# EAGLE library part ARTIC_R2 (library New_Parts_IC-Comms)
AnSem ARTIC R2 Chipset The ARTIC is an integrated low power small size ARGOS 2/3/4 single chip radio. ARTIC implements a message based wireless interface. For satellite uplink communication, ARTIC will encode, modulate and transmit provided user messages. For downlink communication, ARTIC will lock to the downstream, demodulate and decode and extract the satellite messages. The ARTIC can transmit signals in frequency bands around 400MHz and receive signals in the bands around 466MHz, in accordance with the ARGOS satellite system specifications. The ARTIC is compliant and certified for all ARGOS 2 and ARGOS 3 TX standards. It contains a RF transceiver, afrequency synthesizer and a digital baseband modem. The ARTIC contains an on-chip power amplifier delivering 1mW [0dBm] output power, that serves as an output for connecting an external high efficient PA. The (de)modulation algorithms run on an on-chip DSP. This software approach allows for retargeting the ARTIC for other applications. The DSP program can be retained on an external flash or the MCU.
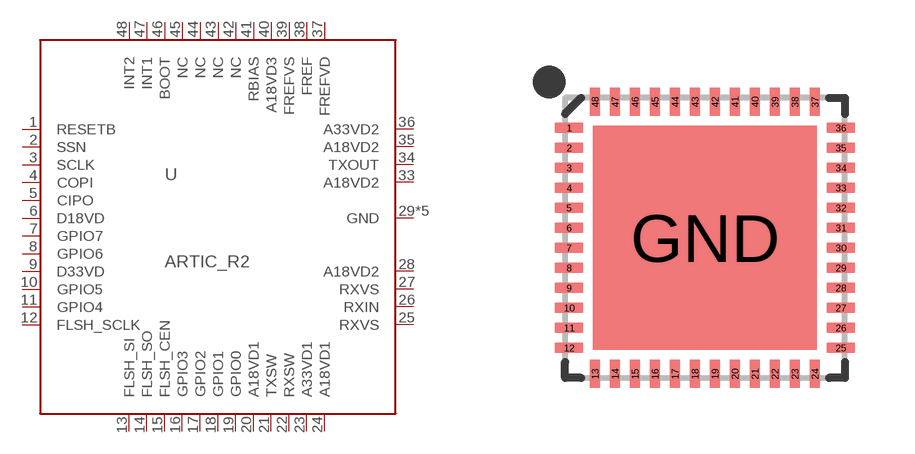
[diagram p0: symbol with the pads of QFN-48; footprint QFN-48]

Designator prefix U

## ARTIC_R2 (PROD_ID: IC-15312)  [QFN-48]
1  RESETB
2  SSN
3  SCLK
4  COPI
5  CIPO
6  D18VD  pwr
7  GPIO7
8  GPIO6
9  D33VD  pwr
10  GPIO5
11  GPIO4
12  FLSH_SCLK
13  FLSH_SI
14  FLSH_SO
15  FLSH_CEN
16  GPIO3
17  GPIO2
18  GPIO1
19  GPIO0
20  A18VD1  pwr
21  TXSW
22  RXSW
23  A33VD1  pwr
24  A18VD1  pwr
25  RXVS
26  RXIN
27  RXVS
28  A18VD2  pwr
29  GND
30  GND
31  GND
32  GND
33  A18VD2  pwr
34  TXOUT
35  A18VD2  pwr
36  A33VD2  pwr
37  FREFVD
38  FREF
39  FREFVS
40  A18VD3  pwr
41  RBIAS
42  NC  nc
43  NC  nc
44  NC  nc
45  NC  nc
46  BOOT
47  INT1
48  INT2
GND  GND

## Footprint QFN-48 (pad centres in mm)
48-pin QFN (7x7mm, 0.5mm pitch)
smd 0.7 x 0.25: 1 -3.4,2.75; 2 -3.4,2.25; 3 -3.4,1.75; 4 -3.4,1.25; 5 -3.4,0.75; 6 -3.4,0.25; 7 -3.4,-0.25; 8 -3.4,-0.75; 9 -3.4,-1.25; 10 -3.4,-1.75; 11 -3.4,-2.25; 12 -3.4,-2.75; 25 3.4,-2.75; 26 3.4,-2.25; 27 3.4,-1.75; 28 3.4,-1.25; 29 3.4,-0.75; 30 3.4,-0.25; 31 3.4,0.25; 32 3.4,0.75; 33 3.4,1.25; 34 3.4,1.75; 35 3.4,2.25; 36 3.4,2.75
smd 0.25 x 0.7: 13 -2.75,-3.4; 14 -2.25,-3.4; 15 -1.75,-3.4; 16 -1.25,-3.4; 17 -0.75,-3.4; 18 -0.25,-3.4; 19 0.25,-3.4; 20 0.75,-3.4; 21 1.25,-3.4; 22 1.75,-3.4; 23 2.25,-3.4; 24 2.75,-3.4; 37 2.75,3.4; 38 2.25,3.4; 39 1.75,3.4; 40 1.25,3.4; 41 0.75,3.4; 42 0.25,3.4; 43 -0.25,3.4; 44 -0.75,3.4; 45 -1.25,3.4; 46 -1.75,3.4; 47 -2.25,3.4; 48 -2.75,3.4
smd 5.6 x 5.6: GND 0,0